# EAGLE library part MINI_PCIE (library con-heo.mini_pci_express)
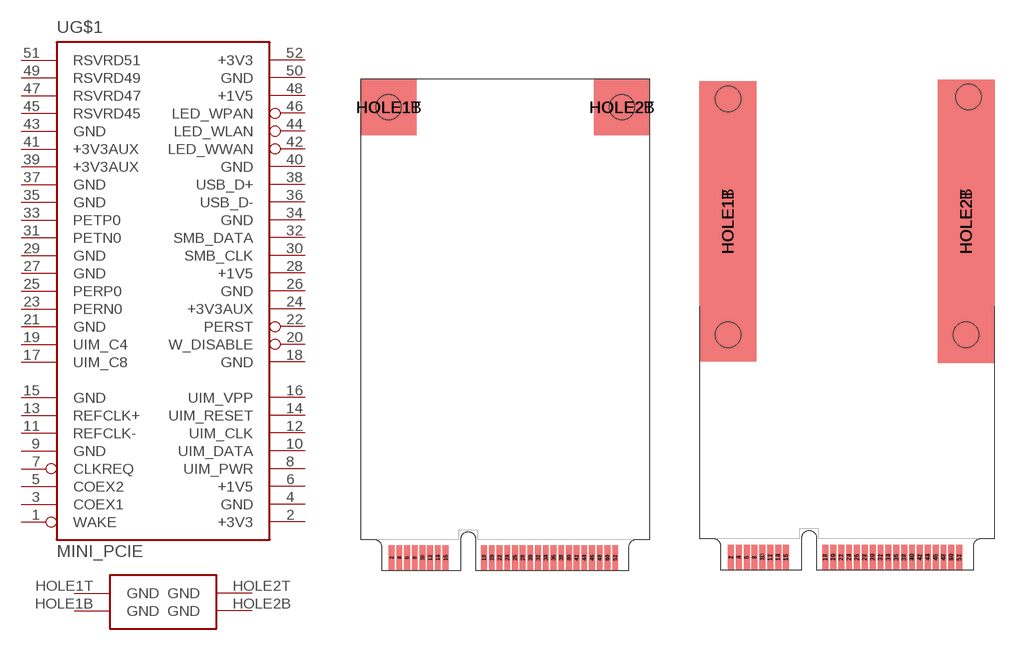
[diagram p0: symbol with the pads of MINI_PCIE; footprints MINI_PCIE, MINI_PCIE_HALF]

Designator prefix -; gates G$1=MINI_PCIE G$2=MINI_PCI_HOLES

## MINI_PCIE  [MINI_PCIE]
1  G$1:WAKE  out
2  G$1:+3V3  pwr
3  G$1:COEX1
4  G$1:GND  pwr
5  G$1:COEX2
6  G$1:+1V5  pwr
7  G$1:CLKREQ  out
8  G$1:UIM_PWR
9  G$1:GND  pwr
10  G$1:UIM_DATA
11  G$1:REFCLK-  in
12  G$1:UIM_CLK
13  G$1:REFCLK+  in
14  G$1:UIM_RESET
15  G$1:GND  pwr
16  G$1:UIM_VPP
17  G$1:UIM_C8
18  G$1:GND  pwr
19  G$1:UIM_C4
20  G$1:W_DISABLE  in
21  G$1:GND  pwr
22  G$1:PERST  in
23  G$1:PERN0
24  G$1:+3V3AUX  pwr
25  G$1:PERP0
26  G$1:GND  pwr
27  G$1:GND  pwr
28  G$1:+1V5  pwr
29  G$1:GND  pwr
30  G$1:SMB_CLK  in
31  G$1:PETN0
32  G$1:SMB_DATA  pwr
33  G$1:PETP0
34  G$1:GND
35  G$1:GND  pwr
36  G$1:USB_D-
37  G$1:GND
38  G$1:USB_D+  pwr
39  G$1:+3V3AUX
40  G$1:GND
41  G$1:+3V3AUX
42  G$1:LED_WWAN  out
43  G$1:GND
44  G$1:LED_WLAN  out
45  G$1:RSVRD45
46  G$1:LED_WPAN  out
47  G$1:RSVRD47
48  G$1:+1V5  out
49  G$1:RSVRD49
50  G$1:GND  out
51  G$1:RSVRD51
52  G$1:+3V3  pwr
HOLE1B  G$2:GND  pwr
HOLE1T  G$2:GND  pwr
HOLE2B  G$2:GND  pwr
HOLE2T  G$2:GND  pwr

## MINI_PCIEHALF  [MINI_PCIE_HALF]
Pads as for MINI_PCIE

## Footprint MINI_PCIE (pad centres in mm)
smd 0.6 x 2.55: 1 0,0; 3 0.8,0; 5 1.6,0; 7 2.4,0; 9 3.2,0; 11 4,0; 13 4.8,0; 15 5.6,0; 17 9.6,0; 19 10.4,0; 21 11.2,0; 23 12,0; 25 12.8,0; 27 13.6,0; 29 14.4,0; 31 15.2,0; 33 16,0; 35 16.8,0; 37 17.6,0; 39 18.4,0; 41 19.2,0; 43 20,0; 45 20.8,0; 47 21.6,0; 49 22.4,0; 51 23.2,0
smd 0.6 x 2.55 bottom: 2 0,0; 4 0.8,0; 6 1.6,0; 8 2.4,0; 10 3.2,0; 12 4,0; 14 4.8,0; 16 5.6,0; 18 9.6,0; 20 10.4,0; 22 11.2,0; 24 12,0; 26 12.8,0; 28 13.6,0; 30 14.4,0; 32 15.2,0; 34 16,0; 36 16.8,0; 38 17.6,0; 40 18.4,0; 42 19.2,0; 44 20,0; 46 20.8,0; 48 21.6,0; 50 22.4,0; 52 23.2,0
smd 5.8 x 5.8 bottom: HOLE1B -0.3,46.775; HOLE2B 23.9,46.775
smd 5.8 x 5.8: HOLE1T -0.3,46.775; HOLE2T 23.9,46.775
hole 2.6 at -0.3,46.775
hole 2.6 at 23.9,46.775

## Footprint MINI_PCIE_HALF (pad centres in mm)
smd 0.6 x 2.55: 1 0,0; 3 0.8,0; 5 1.6,0; 7 2.4,0; 9 3.2,0; 11 4,0; 13 4.8,0; 15 5.6,0; 17 9.6,0; 19 10.4,0; 21 11.2,0; 23 12,0; 25 12.8,0; 27 13.6,0; 29 14.4,0; 31 15.2,0; 33 16,0; 35 16.8,0; 37 17.6,0; 39 18.4,0; 41 19.2,0; 43 20,0; 45 20.8,0; 47 21.6,0; 49 22.4,0; 51 23.2,0
smd 0.6 x 2.55 bottom: 2 0,0; 4 0.8,0; 6 1.6,0; 8 2.4,0; 10 3.2,0; 12 4,0; 14 4.8,0; 16 5.6,0; 18 9.6,0; 20 10.4,0; 22 11.2,0; 24 12,0; 26 12.8,0; 28 13.6,0; 30 14.4,0; 32 15.2,0; 34 16,0; 36 16.8,0; 38 17.6,0; 40 18.4,0; 42 19.2,0; 44 20,0; 46 20.8,0; 48 21.6,0; 50 22.4,0; 52 23.2,0
smd 5.8 x 28.5 bottom: HOLE1B -0.3,34.125
smd 5.8 x 28.5: HOLE1T -0.3,34.125
smd 5.8 x 28.8 bottom: HOLE2B 23.9,34.125
smd 5.8 x 28.8: HOLE2T 23.9,34.125
hole 2.6 at -0.3,22.625
hole 2.6 at 23.9,22.625
hole 2.6 at -0.3,46.557
hole 2.6 at 24.15,46.775